# EAGLE library part PE-PS (library relay)
SLIM POWER Relay SOCKET NAiS Source: http://www.mew-europe.com/.. en_ds_61122_0000.pdf
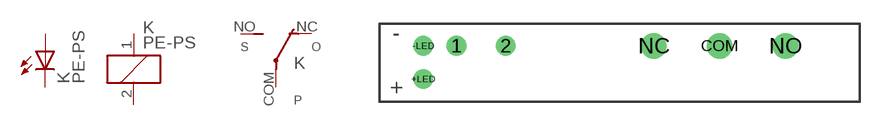
[diagram p83: symbol with the pads of PE-SOCKET; footprint PE-SOCKET]

Designator prefix K; gates 1=K 2=U -LED=LED

## PE-PS  [PE-SOCKET]
1  1:1  pas
2  1:2  pas
+LED  -LED:A  pas
-LED  -LED:C  pas
COM  2:P  pas
NC  2:O  pas
NO  2:S  pas

## Footprint PE-SOCKET (pad centres in mm)
SLIM POWER Relay SOCKET NAiS Source: http://www.mew-europe.com/.. en_ds_61122_0000.pdf
drill 1: 1 -13.1,1.3; 2 -9.32,1.3; +LED -15.64,-1.24; -LED -15.64,1.3
drill 1.3: COM 7.06,1.3; NC 2.02,1.3; NO 12.1,1.3